# Altium integrated library Maxim Amplifiers and Comparators.IntLib: 420 symbols (part 14 of 16)
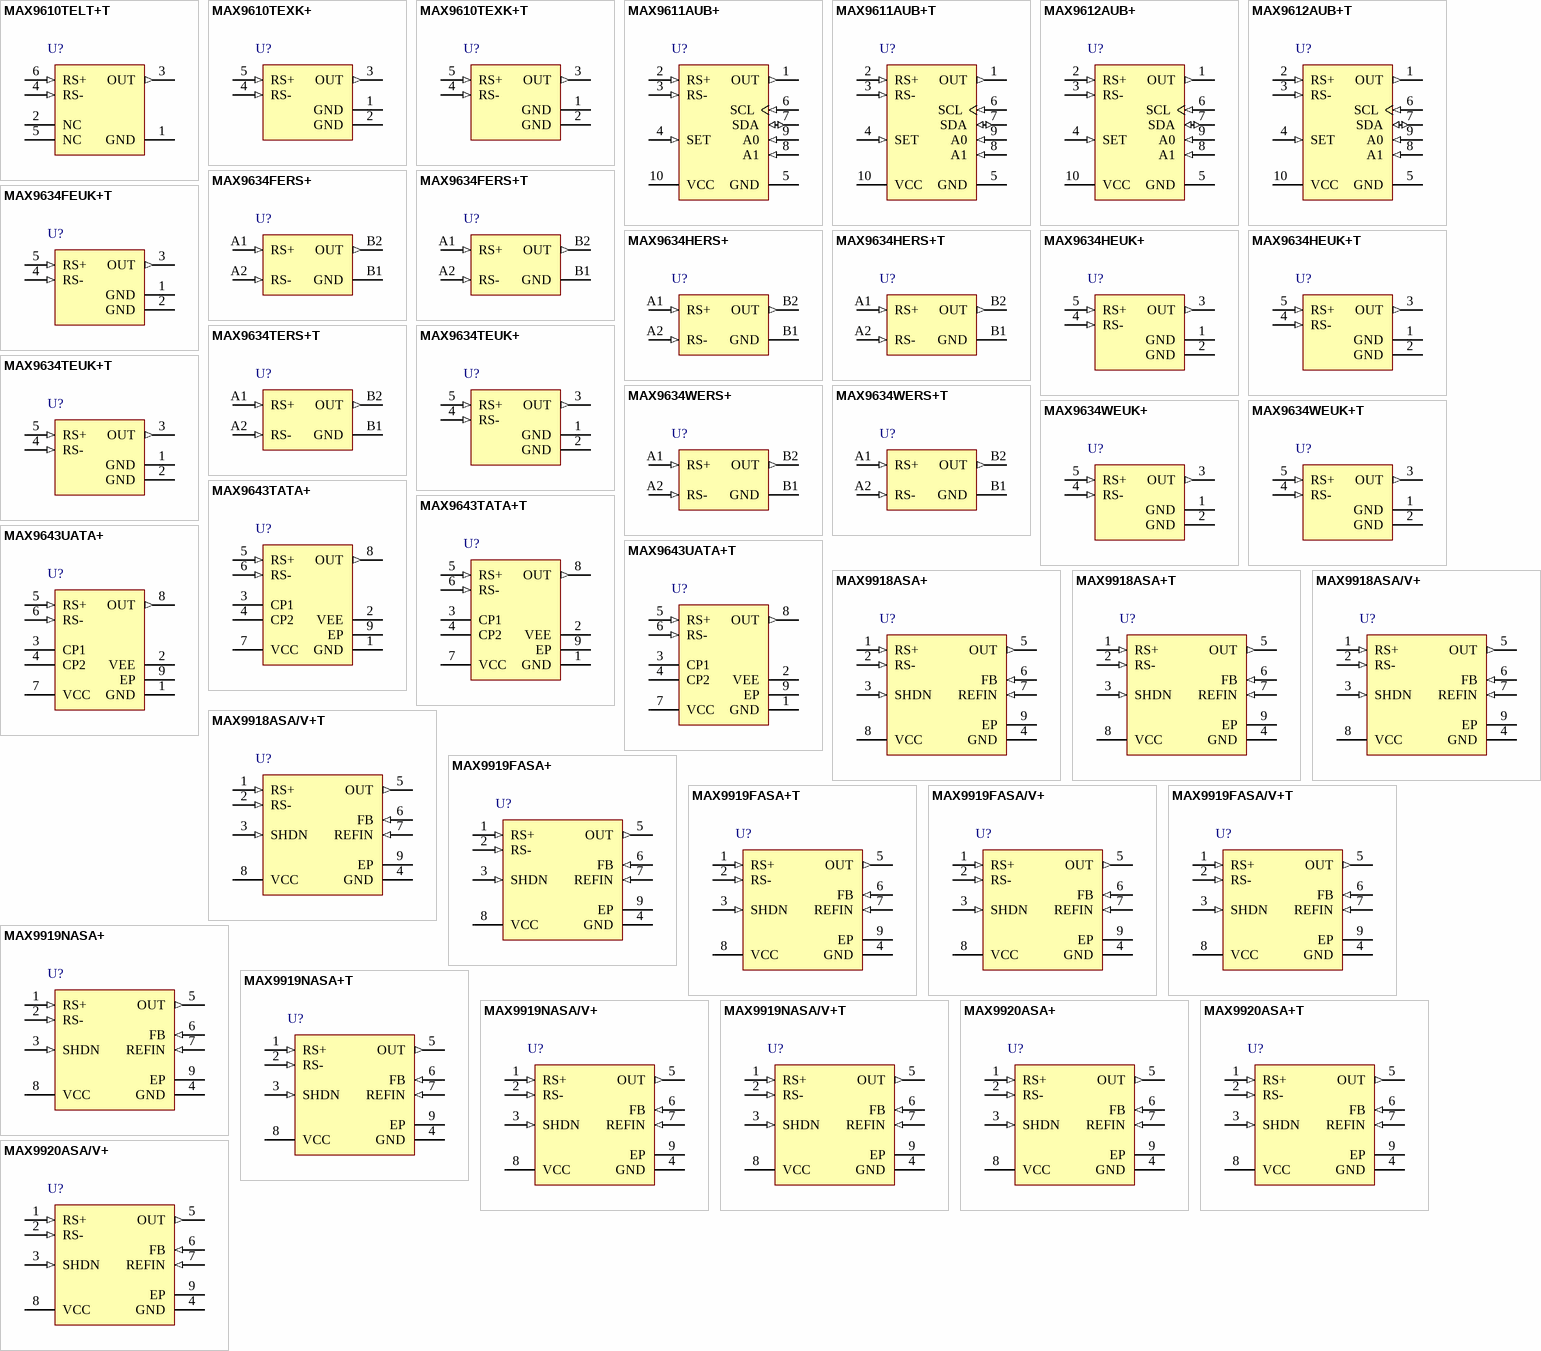
[diagram p23: symbols MAX9610TELT+T to MAX9920ASA/V+]

## MAX9918ASA/V+
designator U?
-20 to 75 V Input Range, Precision Uni- / Bidirectional, Current-Sense Amplifier, Adjustable Gain, -40 to 125 degC, 8-Pin SOIC (S8E+14), Pb-Free; PartNumber: MAX9918ASA/V+; Bi-Dir. Curr. Sense: Yes; Gain: Adj.; Industry Qualified: Automotive - AECQ100, Automotive - General; DatasheetVersion: Rev. 4; PackageVersion: Rev. E, 01/2009; PackageReference: S8E+14; PackageDescription: 8-Pin Small-Outline IC, Narrow, Body 3.9 x 4.89 mm, Exposed Pad 2.945 x 2.26 mm, Pitch 1.27 mm; Supplier 1: Mouser; Supplier Part Number 1: N/A; Mounting Technology: Surface Mount; Code_JEDEC: MS-012; ComponentLink1Description: Manufacturer URL; ComponentLink1URL: http://www.maximintegrated.com/; ComponentLink2Description: Datasheet; ComponentLink2URL: http://datasheets.maximintegrated.com/en/ds/MAX9918-MAX9920.pdf; ComponentLink3Description: Package Specification; ComponentLink3URL: http://pdfserv.maximintegrated.com/package_dwgs/21-0111.PDF
footprint MAXM-S8E+14_N (SOIC, 8-Leads, Body 4.89x3.9mm, Pitch 1.27mm, Thermal Pad 2.945x2.26mm, IPC Medium Density)
footprint MAXM-S8E+14_L (SOIC, 8-Leads, Body 4.89x3.9mm, Pitch 1.27mm, Thermal Pad 2.945x2.26mm, IPC High Density)
footprint MAXM-S8E+14_M (SOIC, 8-Leads, Body 4.89x3.9mm, Pitch 1.27mm, Thermal Pad 2.945x2.26mm, IPC Low Density)
pins: 1 RS+ (in) "Positive Current-Sensing Input. Power side connects to external sense resistor.", 2 RS- (in) "Negative Current-Sensing Input. Load side connects to external sense resistor.", 3 SHDN (in) "Active-High Shutdown Input. Connect to GND for normal operation.", 4 GND (power) "Ground", 5 OUT (out) "Current-Sense Output. VOUT is proportional to VSENSE.", 6 FB (in) "Feedback Input. Connect FB to a resistive-divider network to set the gain for the MAX9918 and MAX9920. See the Adjustable Gain (MAX9918/MAX9920) section for more information. Leave FB unconnected for the MAX9919 for proper (See Datasheet)", 7 REFIN (in) "Reference Input. Set REFIN to VCC/2 for bidirectional operation. Set REFIN to GND for unidirectional operation.", 8 VCC (power) "5V Supply Voltage Input. Bypass VCC to GND with 0.1uF capacitor.", 9 EP (power) "Exposed Pad. Connect to a large-area contiguous ground plane for improved power dissipation. Do not use as the only ground connection for the part."

## MAX9918ASA/V+T
designator U?
-20 to 75 V Input Range, Precision Uni- / Bidirectional, Current-Sense Amplifier, Adjustable Gain, -40 to 125 degC, 8-Pin SOIC (S8E+14), Pb-Free, Tape and Reel; PartNumber: MAX9918ASA/V+T; Bi-Dir. Curr. Sense: Yes; Gain: Adj.; Industry Qualified: Automotive - AECQ100, Automotive - General; DatasheetVersion: Rev. 4; PackageVersion: Rev. E, 01/2009; PackageReference: S8E+14; PackageDescription: 8-Pin Small-Outline IC, Narrow, Body 3.9 x 4.89 mm, Exposed Pad 2.945 x 2.26 mm, Pitch 1.27 mm; Supplier 1: Mouser; Supplier Part Number 1: N/A; Mounting Technology: Surface Mount; Code_JEDEC: MS-012; ComponentLink1Description: Manufacturer URL; ComponentLink1URL: http://www.maximintegrated.com/; ComponentLink2Description: Datasheet; ComponentLink2URL: http://datasheets.maximintegrated.com/en/ds/MAX9918-MAX9920.pdf; ComponentLink3Description: Package Specification; ComponentLink3URL: http://pdfserv.maximintegrated.com/package_dwgs/21-0111.PDF
footprint MAXM-S8E+14_N (SOIC, 8-Leads, Body 4.89x3.9mm, Pitch 1.27mm, Thermal Pad 2.945x2.26mm, IPC Medium Density)
footprint MAXM-S8E+14_L (SOIC, 8-Leads, Body 4.89x3.9mm, Pitch 1.27mm, Thermal Pad 2.945x2.26mm, IPC High Density)
footprint MAXM-S8E+14_M (SOIC, 8-Leads, Body 4.89x3.9mm, Pitch 1.27mm, Thermal Pad 2.945x2.26mm, IPC Low Density)
pins: 1 RS+ (in) "Positive Current-Sensing Input. Power side connects to external sense resistor.", 2 RS- (in) "Negative Current-Sensing Input. Load side connects to external sense resistor.", 3 SHDN (in) "Active-High Shutdown Input. Connect to GND for normal operation.", 4 GND (power) "Ground", 5 OUT (out) "Current-Sense Output. VOUT is proportional to VSENSE.", 6 FB (in) "Feedback Input. Connect FB to a resistive-divider network to set the gain for the MAX9918 and MAX9920. See the Adjustable Gain (MAX9918/MAX9920) section for more information. Leave FB unconnected for the MAX9919 for proper (See Datasheet)", 7 REFIN (in) "Reference Input. Set REFIN to VCC/2 for bidirectional operation. Set REFIN to GND for unidirectional operation.", 8 VCC (power) "5V Supply Voltage Input. Bypass VCC to GND with 0.1uF capacitor.", 9 EP (power) "Exposed Pad. Connect to a large-area contiguous ground plane for improved power dissipation. Do not use as the only ground connection for the part."

## MAX9919FASA+
designator U?
-20 to 75 V Input Range, Precision Uni- / Bidirectional, Current-Sense Amplifier, 45 V / V Gain, -40 to 125 degC, 8-Pin SOIC (S8E+14), Pb-Free; PartNumber: MAX9919FASA+; Bi-Dir. Curr. Sense: Yes; Gain: 45 V/V, 90 V/V; Industry Qualified: Automotive - AECQ100, Automotive - General; DatasheetVersion: Rev. 4; PackageVersion: Rev. E, 01/2009; PackageReference: S8E+14; PackageDescription: 8-Pin Small-Outline IC, Narrow, Body 3.9 x 4.89 mm, Exposed Pad 2.945 x 2.26 mm, Pitch 1.27 mm; Supplier 1: Digi-Key; Supplier Part Number 1: MAX9919FASA+-ND; Supplier 2: Mouser; Supplier Part Number 2: 700-MAX9919FASA+; Mounting Technology: Surface Mount; Code_JEDEC: MS-012; ComponentLink1Description: Manufacturer URL; ComponentLink1URL: http://www.maximintegrated.com/; ComponentLink2Description: Datasheet; ComponentLink2URL: http://datasheets.maximintegrated.com/en/ds/MAX9918-MAX9920.pdf; ComponentLink3Description: Package Specification; ComponentLink3URL: http://pdfserv.maximintegrated.com/package_dwgs/21-0111.PDF
footprint MAXM-S8E+14_N (SOIC, 8-Leads, Body 4.89x3.9mm, Pitch 1.27mm, Thermal Pad 2.945x2.26mm, IPC Medium Density)
footprint MAXM-S8E+14_L (SOIC, 8-Leads, Body 4.89x3.9mm, Pitch 1.27mm, Thermal Pad 2.945x2.26mm, IPC High Density)
footprint MAXM-S8E+14_M (SOIC, 8-Leads, Body 4.89x3.9mm, Pitch 1.27mm, Thermal Pad 2.945x2.26mm, IPC Low Density)
pins: 1 RS+ (in) "Positive Current-Sensing Input. Power side connects to external sense resistor.", 2 RS- (in) "Negative Current-Sensing Input. Load side connects to external sense resistor.", 3 SHDN (in) "Active-High Shutdown Input. Connect to GND for normal operation.", 4 GND (power) "Ground", 5 OUT (out) "Current-Sense Output. VOUT is proportional to VSENSE.", 6 FB (in) "Feedback Input. Connect FB to a resistive-divider network to set the gain for the MAX9918 and MAX9920. See the Adjustable Gain (MAX9918/MAX9920) section for more information. Leave FB unconnected for the MAX9919 for proper (See Datasheet)", 7 REFIN (in) "Reference Input. Set REFIN to VCC/2 for bidirectional operation. Set REFIN to GND for unidirectional operation.", 8 VCC (power) "5V Supply Voltage Input. Bypass VCC to GND with 0.1uF capacitor.", 9 EP (power) "Exposed Pad. Connect to a large-area contiguous ground plane for improved power dissipation. Do not use as the only ground connection for the part."

## MAX9919FASA+T
designator U?
-20 to 75 V Input Range, Precision Uni- / Bidirectional, Current-Sense Amplifier, 45 V / V Gain, -40 to 125 degC, 8-Pin SOIC (S8E+14), Pb-Free, Tape and Reel; PartNumber: MAX9919FASA+T; Bi-Dir. Curr. Sense: Yes; Gain: 45 V/V, 90 V/V; Industry Qualified: Automotive - AECQ100, Automotive - General; DatasheetVersion: Rev. 4; PackageVersion: Rev. E, 01/2009; PackageReference: S8E+14; PackageDescription: 8-Pin Small-Outline IC, Narrow, Body 3.9 x 4.89 mm, Exposed Pad 2.945 x 2.26 mm, Pitch 1.27 mm; Supplier 1: Digi-Key; Supplier Part Number 1: MAX9919FASA+T-ND; Supplier 2: Mouser; Supplier Part Number 2: 700-MAX9919FASA+T; Mounting Technology: Surface Mount; Code_JEDEC: MS-012; ComponentLink1Description: Manufacturer URL; ComponentLink1URL: http://www.maximintegrated.com/; ComponentLink2Description: Datasheet; ComponentLink2URL: http://datasheets.maximintegrated.com/en/ds/MAX9918-MAX9920.pdf; ComponentLink3Description: Package Specification; ComponentLink3URL: http://pdfserv.maximintegrated.com/package_dwgs/21-0111.PDF
footprint MAXM-S8E+14_N (SOIC, 8-Leads, Body 4.89x3.9mm, Pitch 1.27mm, Thermal Pad 2.945x2.26mm, IPC Medium Density)
footprint MAXM-S8E+14_L (SOIC, 8-Leads, Body 4.89x3.9mm, Pitch 1.27mm, Thermal Pad 2.945x2.26mm, IPC High Density)
footprint MAXM-S8E+14_M (SOIC, 8-Leads, Body 4.89x3.9mm, Pitch 1.27mm, Thermal Pad 2.945x2.26mm, IPC Low Density)
pins: 1 RS+ (in) "Positive Current-Sensing Input. Power side connects to external sense resistor.", 2 RS- (in) "Negative Current-Sensing Input. Load side connects to external sense resistor.", 3 SHDN (in) "Active-High Shutdown Input. Connect to GND for normal operation.", 4 GND (power) "Ground", 5 OUT (out) "Current-Sense Output. VOUT is proportional to VSENSE.", 6 FB (in) "Feedback Input. Connect FB to a resistive-divider network to set the gain for the MAX9918 and MAX9920. See the Adjustable Gain (MAX9918/MAX9920) section for more information. Leave FB unconnected for the MAX9919 for proper (See Datasheet)", 7 REFIN (in) "Reference Input. Set REFIN to VCC/2 for bidirectional operation. Set REFIN to GND for unidirectional operation.", 8 VCC (power) "5V Supply Voltage Input. Bypass VCC to GND with 0.1uF capacitor.", 9 EP (power) "Exposed Pad. Connect to a large-area contiguous ground plane for improved power dissipation. Do not use as the only ground connection for the part."

## MAX9919FASA/V+
designator U?
-20 to 75 V Input Range, Precision Uni- / Bidirectional, Current-Sense Amplifier, 45 V / V Gain, -40 to 125 degC, 8-Pin SOIC (S8E+14), Pb-Free; PartNumber: MAX9919FASA/V+; Bi-Dir. Curr. Sense: Yes; Gain: 45 V/V, 90 V/V; Industry Qualified: Automotive - AECQ100, Automotive - General; DatasheetVersion: Rev. 4; PackageVersion: Rev. E, 01/2009; PackageReference: S8E+14; PackageDescription: 8-Pin Small-Outline IC, Narrow, Body 3.9 x 4.89 mm, Exposed Pad 2.945 x 2.26 mm, Pitch 1.27 mm; Supplier 1: Mouser; Supplier Part Number 1: N/A; Mounting Technology: Surface Mount; Code_JEDEC: MS-012; ComponentLink1Description: Manufacturer URL; ComponentLink1URL: http://www.maximintegrated.com/; ComponentLink2Description: Datasheet; ComponentLink2URL: http://datasheets.maximintegrated.com/en/ds/MAX9918-MAX9920.pdf; ComponentLink3Description: Package Specification; ComponentLink3URL: http://pdfserv.maximintegrated.com/package_dwgs/21-0111.PDF
footprint MAXM-S8E+14_N (SOIC, 8-Leads, Body 4.89x3.9mm, Pitch 1.27mm, Thermal Pad 2.945x2.26mm, IPC Medium Density)
footprint MAXM-S8E+14_L (SOIC, 8-Leads, Body 4.89x3.9mm, Pitch 1.27mm, Thermal Pad 2.945x2.26mm, IPC High Density)
footprint MAXM-S8E+14_M (SOIC, 8-Leads, Body 4.89x3.9mm, Pitch 1.27mm, Thermal Pad 2.945x2.26mm, IPC Low Density)
pins: 1 RS+ (in) "Positive Current-Sensing Input. Power side connects to external sense resistor.", 2 RS- (in) "Negative Current-Sensing Input. Load side connects to external sense resistor.", 3 SHDN (in) "Active-High Shutdown Input. Connect to GND for normal operation.", 4 GND (power) "Ground", 5 OUT (out) "Current-Sense Output. VOUT is proportional to VSENSE.", 6 FB (in) "Feedback Input. Connect FB to a resistive-divider network to set the gain for the MAX9918 and MAX9920. See the Adjustable Gain (MAX9918/MAX9920) section for more information. Leave FB unconnected for the MAX9919 for proper (See Datasheet)", 7 REFIN (in) "Reference Input. Set REFIN to VCC/2 for bidirectional operation. Set REFIN to GND for unidirectional operation.", 8 VCC (power) "5V Supply Voltage Input. Bypass VCC to GND with 0.1uF capacitor.", 9 EP (power) "Exposed Pad. Connect to a large-area contiguous ground plane for improved power dissipation. Do not use as the only ground connection for the part."

## MAX9919FASA/V+T
designator U?
-20 to 75 V Input Range, Precision Uni- / Bidirectional, Current-Sense Amplifier, 45 V / V Gain, -40 to 125 degC, 8-Pin SOIC (S8E+14), Pb-Free, Tape and Reel; PartNumber: MAX9919FASA/V+T; Bi-Dir. Curr. Sense: Yes; Gain: 45 V/V, 90 V/V; Industry Qualified: Automotive - AECQ100, Automotive - General; DatasheetVersion: Rev. 4; PackageVersion: Rev. E, 01/2009; PackageReference: S8E+14; PackageDescription: 8-Pin Small-Outline IC, Narrow, Body 3.9 x 4.89 mm, Exposed Pad 2.945 x 2.26 mm, Pitch 1.27 mm; Supplier 1: Mouser; Supplier Part Number 1: N/A; Mounting Technology: Surface Mount; Code_JEDEC: MS-012; ComponentLink1Description: Manufacturer URL; ComponentLink1URL: http://www.maximintegrated.com/; ComponentLink2Description: Datasheet; ComponentLink2URL: http://datasheets.maximintegrated.com/en/ds/MAX9918-MAX9920.pdf; ComponentLink3Description: Package Specification; ComponentLink3URL: http://pdfserv.maximintegrated.com/package_dwgs/21-0111.PDF
footprint MAXM-S8E+14_N (SOIC, 8-Leads, Body 4.89x3.9mm, Pitch 1.27mm, Thermal Pad 2.945x2.26mm, IPC Medium Density)
footprint MAXM-S8E+14_L (SOIC, 8-Leads, Body 4.89x3.9mm, Pitch 1.27mm, Thermal Pad 2.945x2.26mm, IPC High Density)
footprint MAXM-S8E+14_M (SOIC, 8-Leads, Body 4.89x3.9mm, Pitch 1.27mm, Thermal Pad 2.945x2.26mm, IPC Low Density)
pins: 1 RS+ (in) "Positive Current-Sensing Input. Power side connects to external sense resistor.", 2 RS- (in) "Negative Current-Sensing Input. Load side connects to external sense resistor.", 3 SHDN (in) "Active-High Shutdown Input. Connect to GND for normal operation.", 4 GND (power) "Ground", 5 OUT (out) "Current-Sense Output. VOUT is proportional to VSENSE.", 6 FB (in) "Feedback Input. Connect FB to a resistive-divider network to set the gain for the MAX9918 and MAX9920. See the Adjustable Gain (MAX9918/MAX9920) section for more information. Leave FB unconnected for the MAX9919 for proper (See Datasheet)", 7 REFIN (in) "Reference Input. Set REFIN to VCC/2 for bidirectional operation. Set REFIN to GND for unidirectional operation.", 8 VCC (power) "5V Supply Voltage Input. Bypass VCC to GND with 0.1uF capacitor.", 9 EP (power) "Exposed Pad. Connect to a large-area contiguous ground plane for improved power dissipation. Do not use as the only ground connection for the part."

## MAX9919NASA+
designator U?
-20 to 75 V Input Range, Precision Uni- / Bidirectional, Current-Sense Amplifier, 90 V / V Gain, -40 to 125 degC, 8-Pin SOIC (S8E+14), Pb-Free; PartNumber: MAX9919NASA+; Bi-Dir. Curr. Sense: Yes; Gain: 45 V/V, 90 V/V; Industry Qualified: Automotive - AECQ100, Automotive - General; DatasheetVersion: Rev. 4; PackageVersion: Rev. E, 01/2009; PackageReference: S8E+14; PackageDescription: 8-Pin Small-Outline IC, Narrow, Body 3.9 x 4.89 mm, Exposed Pad 2.945 x 2.26 mm, Pitch 1.27 mm; Supplier 1: Digi-Key; Supplier Part Number 1: MAX9919NASA+-ND; Supplier 2: Mouser; Supplier Part Number 2: 700-MAX9919NASA+; Mounting Technology: Surface Mount; Code_JEDEC: MS-012; ComponentLink1Description: Manufacturer URL; ComponentLink1URL: http://www.maximintegrated.com/; ComponentLink2Description: Datasheet; ComponentLink2URL: http://datasheets.maximintegrated.com/en/ds/MAX9918-MAX9920.pdf; ComponentLink3Description: Package Specification; ComponentLink3URL: http://pdfserv.maximintegrated.com/package_dwgs/21-0111.PDF
footprint MAXM-S8E+14_N (SOIC, 8-Leads, Body 4.89x3.9mm, Pitch 1.27mm, Thermal Pad 2.945x2.26mm, IPC Medium Density)
footprint MAXM-S8E+14_L (SOIC, 8-Leads, Body 4.89x3.9mm, Pitch 1.27mm, Thermal Pad 2.945x2.26mm, IPC High Density)
footprint MAXM-S8E+14_M (SOIC, 8-Leads, Body 4.89x3.9mm, Pitch 1.27mm, Thermal Pad 2.945x2.26mm, IPC Low Density)
pins: 1 RS+ (in) "Positive Current-Sensing Input. Power side connects to external sense resistor.", 2 RS- (in) "Negative Current-Sensing Input. Load side connects to external sense resistor.", 3 SHDN (in) "Active-High Shutdown Input. Connect to GND for normal operation.", 4 GND (power) "Ground", 5 OUT (out) "Current-Sense Output. VOUT is proportional to VSENSE.", 6 FB (in) "Feedback Input. Connect FB to a resistive-divider network to set the gain for the MAX9918 and MAX9920. See the Adjustable Gain (MAX9918/MAX9920) section for more information. Leave FB unconnected for the MAX9919 for proper (See Datasheet)", 7 REFIN (in) "Reference Input. Set REFIN to VCC/2 for bidirectional operation. Set REFIN to GND for unidirectional operation.", 8 VCC (power) "5V Supply Voltage Input. Bypass VCC to GND with 0.1uF capacitor.", 9 EP (power) "Exposed Pad. Connect to a large-area contiguous ground plane for improved power dissipation. Do not use as the only ground connection for the part."

## MAX9919NASA+T
designator U?
-20 to 75 V Input Range, Precision Uni- / Bidirectional, Current-Sense Amplifier, 90 V / V Gain, -40 to 125 degC, 8-Pin SOIC (S8E+14), Pb-Free, Tape and Reel; PartNumber: MAX9919NASA+T; Bi-Dir. Curr. Sense: Yes; Gain: 45 V/V, 90 V/V; Industry Qualified: Automotive - AECQ100, Automotive - General; DatasheetVersion: Rev. 4; PackageVersion: Rev. E, 01/2009; PackageReference: S8E+14; PackageDescription: 8-Pin Small-Outline IC, Narrow, Body 3.9 x 4.89 mm, Exposed Pad 2.945 x 2.26 mm, Pitch 1.27 mm; Supplier 1: Digi-Key; Supplier Part Number 1: MAX9919NASA+T-ND; Supplier 2: Mouser; Supplier Part Number 2: 700-MAX9919NASA+T; Mounting Technology: Surface Mount; Code_JEDEC: MS-012; ComponentLink1Description: Manufacturer URL; ComponentLink1URL: http://www.maximintegrated.com/; ComponentLink2Description: Datasheet; ComponentLink2URL: http://datasheets.maximintegrated.com/en/ds/MAX9918-MAX9920.pdf; ComponentLink3Description: Package Specification; ComponentLink3URL: http://pdfserv.maximintegrated.com/package_dwgs/21-0111.PDF
footprint MAXM-S8E+14_N (SOIC, 8-Leads, Body 4.89x3.9mm, Pitch 1.27mm, Thermal Pad 2.945x2.26mm, IPC Medium Density)
footprint MAXM-S8E+14_L (SOIC, 8-Leads, Body 4.89x3.9mm, Pitch 1.27mm, Thermal Pad 2.945x2.26mm, IPC High Density)
footprint MAXM-S8E+14_M (SOIC, 8-Leads, Body 4.89x3.9mm, Pitch 1.27mm, Thermal Pad 2.945x2.26mm, IPC Low Density)
pins: 1 RS+ (in) "Positive Current-Sensing Input. Power side connects to external sense resistor.", 2 RS- (in) "Negative Current-Sensing Input. Load side connects to external sense resistor.", 3 SHDN (in) "Active-High Shutdown Input. Connect to GND for normal operation.", 4 GND (power) "Ground", 5 OUT (out) "Current-Sense Output. VOUT is proportional to VSENSE.", 6 FB (in) "Feedback Input. Connect FB to a resistive-divider network to set the gain for the MAX9918 and MAX9920. See the Adjustable Gain (MAX9918/MAX9920) section for more information. Leave FB unconnected for the MAX9919 for proper (See Datasheet)", 7 REFIN (in) "Reference Input. Set REFIN to VCC/2 for bidirectional operation. Set REFIN to GND for unidirectional operation.", 8 VCC (power) "5V Supply Voltage Input. Bypass VCC to GND with 0.1uF capacitor.", 9 EP (power) "Exposed Pad. Connect to a large-area contiguous ground plane for improved power dissipation. Do not use as the only ground connection for the part."

## MAX9919NASA/V+
designator U?
-20 to 75 V Input Range, Precision Uni- / Bidirectional, Current-Sense Amplifier, 90 V / V Gain, -40 to 125 degC, 8-Pin SOIC (S8E+14), Pb-Free; PartNumber: MAX9919NASA/V+; Bi-Dir. Curr. Sense: Yes; Gain: 45 V/V, 90 V/V; Industry Qualified: Automotive - AECQ100, Automotive - General; DatasheetVersion: Rev. 4; PackageVersion: Rev. E, 01/2009; PackageReference: S8E+14; PackageDescription: 8-Pin Small-Outline IC, Narrow, Body 3.9 x 4.89 mm, Exposed Pad 2.945 x 2.26 mm, Pitch 1.27 mm; Supplier 1: Mouser; Supplier Part Number 1: N/A; Mounting Technology: Surface Mount; Code_JEDEC: MS-012; ComponentLink1Description: Manufacturer URL; ComponentLink1URL: http://www.maximintegrated.com/; ComponentLink2Description: Datasheet; ComponentLink2URL: http://datasheets.maximintegrated.com/en/ds/MAX9918-MAX9920.pdf; ComponentLink3Description: Package Specification; ComponentLink3URL: http://pdfserv.maximintegrated.com/package_dwgs/21-0111.PDF
footprint MAXM-S8E+14_N (SOIC, 8-Leads, Body 4.89x3.9mm, Pitch 1.27mm, Thermal Pad 2.945x2.26mm, IPC Medium Density)
footprint MAXM-S8E+14_L (SOIC, 8-Leads, Body 4.89x3.9mm, Pitch 1.27mm, Thermal Pad 2.945x2.26mm, IPC High Density)
footprint MAXM-S8E+14_M (SOIC, 8-Leads, Body 4.89x3.9mm, Pitch 1.27mm, Thermal Pad 2.945x2.26mm, IPC Low Density)
pins: 1 RS+ (in) "Positive Current-Sensing Input. Power side connects to external sense resistor.", 2 RS- (in) "Negative Current-Sensing Input. Load side connects to external sense resistor.", 3 SHDN (in) "Active-High Shutdown Input. Connect to GND for normal operation.", 4 GND (power) "Ground", 5 OUT (out) "Current-Sense Output. VOUT is proportional to VSENSE.", 6 FB (in) "Feedback Input. Connect FB to a resistive-divider network to set the gain for the MAX9918 and MAX9920. See the Adjustable Gain (MAX9918/MAX9920) section for more information. Leave FB unconnected for the MAX9919 for proper (See Datasheet)", 7 REFIN (in) "Reference Input. Set REFIN to VCC/2 for bidirectional operation. Set REFIN to GND for unidirectional operation.", 8 VCC (power) "5V Supply Voltage Input. Bypass VCC to GND with 0.1uF capacitor.", 9 EP (power) "Exposed Pad. Connect to a large-area contiguous ground plane for improved power dissipation. Do not use as the only ground connection for the part."

## MAX9919NASA/V+T
designator U?
-20 to 75 V Input Range, Precision Uni- / Bidirectional, Current-Sense Amplifier, 90 V / V Gain, -40 to 125 degC, 8-Pin SOIC (S8E+14), Pb-Free, Tape and Reel; PartNumber: MAX9919NASA/V+T; Bi-Dir. Curr. Sense: Yes; Gain: 45 V/V, 90 V/V; Industry Qualified: Automotive - AECQ100, Automotive - General; DatasheetVersion: Rev. 4; PackageVersion: Rev. E, 01/2009; PackageReference: S8E+14; PackageDescription: 8-Pin Small-Outline IC, Narrow, Body 3.9 x 4.89 mm, Exposed Pad 2.945 x 2.26 mm, Pitch 1.27 mm; Supplier 1: Mouser; Supplier Part Number 1: N/A; Mounting Technology: Surface Mount; Code_JEDEC: MS-012; ComponentLink1Description: Manufacturer URL; ComponentLink1URL: http://www.maximintegrated.com/; ComponentLink2Description: Datasheet; ComponentLink2URL: http://datasheets.maximintegrated.com/en/ds/MAX9918-MAX9920.pdf; ComponentLink3Description: Package Specification; ComponentLink3URL: http://pdfserv.maximintegrated.com/package_dwgs/21-0111.PDF
footprint MAXM-S8E+14_N (SOIC, 8-Leads, Body 4.89x3.9mm, Pitch 1.27mm, Thermal Pad 2.945x2.26mm, IPC Medium Density)
footprint MAXM-S8E+14_L (SOIC, 8-Leads, Body 4.89x3.9mm, Pitch 1.27mm, Thermal Pad 2.945x2.26mm, IPC High Density)
footprint MAXM-S8E+14_M (SOIC, 8-Leads, Body 4.89x3.9mm, Pitch 1.27mm, Thermal Pad 2.945x2.26mm, IPC Low Density)
pins: 1 RS+ (in) "Positive Current-Sensing Input. Power side connects to external sense resistor.", 2 RS- (in) "Negative Current-Sensing Input. Load side connects to external sense resistor.", 3 SHDN (in) "Active-High Shutdown Input. Connect to GND for normal operation.", 4 GND (power) "Ground", 5 OUT (out) "Current-Sense Output. VOUT is proportional to VSENSE.", 6 FB (in) "Feedback Input. Connect FB to a resistive-divider network to set the gain for the MAX9918 and MAX9920. See the Adjustable Gain (MAX9918/MAX9920) section for more information. Leave FB unconnected for the MAX9919 for proper (See Datasheet)", 7 REFIN (in) "Reference Input. Set REFIN to VCC/2 for bidirectional operation. Set REFIN to GND for unidirectional operation.", 8 VCC (power) "5V Supply Voltage Input. Bypass VCC to GND with 0.1uF capacitor.", 9 EP (power) "Exposed Pad. Connect to a large-area contiguous ground plane for improved power dissipation. Do not use as the only ground connection for the part."

## MAX9920ASA+
designator U?
-20 to 75 V Input Range, Precision Uni- / Bidirectional, Current-Sense Amplifier, Adjustable Gain, -40 to 125 degC, 8-Pin SOIC (S8E+14), Pb-Free; PartNumber: MAX9920ASA+; Bi-Dir. Curr. Sense: Yes; Gain: Adj.; Industry Qualified: Automotive - AECQ100, Automotive - General; DatasheetVersion: Rev. 4; PackageVersion: Rev. E, 01/2009; PackageReference: S8E+14; PackageDescription: 8-Pin Small-Outline IC, Narrow, Body 3.9 x 4.89 mm, Exposed Pad 2.945 x 2.26 mm, Pitch 1.27 mm; Supplier 1: Digi-Key; Supplier Part Number 1: MAX9920ASA+-ND; Supplier 2: Mouser; Supplier Part Number 2: 700-MAX9920ASA+; Mounting Technology: Surface Mount; Code_JEDEC: MS-012; ComponentLink1Description: Manufacturer URL; ComponentLink1URL: http://www.maximintegrated.com/; ComponentLink2Description: Datasheet; ComponentLink2URL: http://datasheets.maximintegrated.com/en/ds/MAX9918-MAX9920.pdf; ComponentLink3Description: Package Specification; ComponentLink3URL: http://pdfserv.maximintegrated.com/package_dwgs/21-0111.PDF
footprint MAXM-S8E+14_N (SOIC, 8-Leads, Body 4.89x3.9mm, Pitch 1.27mm, Thermal Pad 2.945x2.26mm, IPC Medium Density)
footprint MAXM-S8E+14_L (SOIC, 8-Leads, Body 4.89x3.9mm, Pitch 1.27mm, Thermal Pad 2.945x2.26mm, IPC High Density)
footprint MAXM-S8E+14_M (SOIC, 8-Leads, Body 4.89x3.9mm, Pitch 1.27mm, Thermal Pad 2.945x2.26mm, IPC Low Density)
pins: 1 RS+ (in) "Positive Current-Sensing Input. Power side connects to external sense resistor.", 2 RS- (in) "Negative Current-Sensing Input. Load side connects to external sense resistor.", 3 SHDN (in) "Active-High Shutdown Input. Connect to GND for normal operation.", 4 GND (power) "Ground", 5 OUT (out) "Current-Sense Output. VOUT is proportional to VSENSE.", 6 FB (in) "Feedback Input. Connect FB to a resistive-divider network to set the gain for the MAX9918 and MAX9920. See the Adjustable Gain (MAX9918/MAX9920) section for more information. Leave FB unconnected for the MAX9919 for proper (See Datasheet)", 7 REFIN (in) "Reference Input. Set REFIN to VCC/2 for bidirectional operation. Set REFIN to GND for unidirectional operation.", 8 VCC (power) "5V Supply Voltage Input. Bypass VCC to GND with 0.1uF capacitor.", 9 EP (power) "Exposed Pad. Connect to a large-area contiguous ground plane for improved power dissipation. Do not use as the only ground connection for the part."

## MAX9920ASA+T
designator U?
-20 to 75 V Input Range, Precision Uni- / Bidirectional, Current-Sense Amplifier, Adjustable Gain, -40 to 125 degC, 8-Pin SOIC (S8E+14), Pb-Free, Tape and Reel; PartNumber: MAX9920ASA+T; Bi-Dir. Curr. Sense: Yes; Gain: Adj.; Industry Qualified: Automotive - AECQ100, Automotive - General; DatasheetVersion: Rev. 4; PackageVersion: Rev. E, 01/2009; PackageReference: S8E+14; PackageDescription: 8-Pin Small-Outline IC, Narrow, Body 3.9 x 4.89 mm, Exposed Pad 2.945 x 2.26 mm, Pitch 1.27 mm; Supplier 1: Digi-Key; Supplier Part Number 1: MAX9920ASA+T-ND; Supplier 2: Mouser; Supplier Part Number 2: 700-MAX9920ASA+T; Mounting Technology: Surface Mount; Code_JEDEC: MS-012; ComponentLink1Description: Manufacturer URL; ComponentLink1URL: http://www.maximintegrated.com/; ComponentLink2Description: Datasheet; ComponentLink2URL: http://datasheets.maximintegrated.com/en/ds/MAX9918-MAX9920.pdf; ComponentLink3Description: Package Specification; ComponentLink3URL: http://pdfserv.maximintegrated.com/package_dwgs/21-0111.PDF
footprint MAXM-S8E+14_N (SOIC, 8-Leads, Body 4.89x3.9mm, Pitch 1.27mm, Thermal Pad 2.945x2.26mm, IPC Medium Density)
footprint MAXM-S8E+14_L (SOIC, 8-Leads, Body 4.89x3.9mm, Pitch 1.27mm, Thermal Pad 2.945x2.26mm, IPC High Density)
footprint MAXM-S8E+14_M (SOIC, 8-Leads, Body 4.89x3.9mm, Pitch 1.27mm, Thermal Pad 2.945x2.26mm, IPC Low Density)
pins: 1 RS+ (in) "Positive Current-Sensing Input. Power side connects to external sense resistor.", 2 RS- (in) "Negative Current-Sensing Input. Load side connects to external sense resistor.", 3 SHDN (in) "Active-High Shutdown Input. Connect to GND for normal operation.", 4 GND (power) "Ground", 5 OUT (out) "Current-Sense Output. VOUT is proportional to VSENSE.", 6 FB (in) "Feedback Input. Connect FB to a resistive-divider network to set the gain for the MAX9918 and MAX9920. See the Adjustable Gain (MAX9918/MAX9920) section for more information. Leave FB unconnected for the MAX9919 for proper (See Datasheet)", 7 REFIN (in) "Reference Input. Set REFIN to VCC/2 for bidirectional operation. Set REFIN to GND for unidirectional operation.", 8 VCC (power) "5V Supply Voltage Input. Bypass VCC to GND with 0.1uF capacitor.", 9 EP (power) "Exposed Pad. Connect to a large-area contiguous ground plane for improved power dissipation. Do not use as the only ground connection for the part."

## MAX9920ASA/V+
designator U?
-20 to 75 V Input Range, Precision Uni- / Bidirectional, Current-Sense Amplifier, Adjustable Gain, -40 to 125 degC, 8-Pin SOIC (S8E+14), Pb-Free; PartNumber: MAX9920ASA/V+; Bi-Dir. Curr. Sense: Yes; Gain: Adj.; Industry Qualified: Automotive - AECQ100, Automotive - General; DatasheetVersion: Rev. 4; PackageVersion: Rev. E, 01/2009; PackageReference: S8E+14; PackageDescription: 8-Pin Small-Outline IC, Narrow, Body 3.9 x 4.89 mm, Exposed Pad 2.945 x 2.26 mm, Pitch 1.27 mm; Supplier 1: Digi-Key; Supplier Part Number 1: MAX9920ASA/V+-ND; Supplier 2: Mouser; Supplier Part Number 2: 700-MAX9920ASA/V+; Mounting Technology: Surface Mount; Code_JEDEC: MS-012; ComponentLink1Description: Manufacturer URL; ComponentLink1URL: http://www.maximintegrated.com/; ComponentLink2Description: Datasheet; ComponentLink2URL: http://datasheets.maximintegrated.com/en/ds/MAX9918-MAX9920.pdf; ComponentLink3Description: Package Specification; ComponentLink3URL: http://pdfserv.maximintegrated.com/package_dwgs/21-0111.PDF
footprint MAXM-S8E+14_N (SOIC, 8-Leads, Body 4.89x3.9mm, Pitch 1.27mm, Thermal Pad 2.945x2.26mm, IPC Medium Density)
footprint MAXM-S8E+14_L (SOIC, 8-Leads, Body 4.89x3.9mm, Pitch 1.27mm, Thermal Pad 2.945x2.26mm, IPC High Density)
footprint MAXM-S8E+14_M (SOIC, 8-Leads, Body 4.89x3.9mm, Pitch 1.27mm, Thermal Pad 2.945x2.26mm, IPC Low Density)
pins: 1 RS+ (in) "Positive Current-Sensing Input. Power side connects to external sense resistor.", 2 RS- (in) "Negative Current-Sensing Input. Load side connects to external sense resistor.", 3 SHDN (in) "Active-High Shutdown Input. Connect to GND for normal operation.", 4 GND (power) "Ground", 5 OUT (out) "Current-Sense Output. VOUT is proportional to VSENSE.", 6 FB (in) "Feedback Input. Connect FB to a resistive-divider network to set the gain for the MAX9918 and MAX9920. See the Adjustable Gain (MAX9918/MAX9920) section for more information. Leave FB unconnected for the MAX9919 for proper (See Datasheet)", 7 REFIN (in) "Reference Input. Set REFIN to VCC/2 for bidirectional operation. Set REFIN to GND for unidirectional operation.", 8 VCC (power) "5V Supply Voltage Input. Bypass VCC to GND with 0.1uF capacitor.", 9 EP (power) "Exposed Pad. Connect to a large-area contiguous ground plane for improved power dissipation. Do not use as the only ground connection for the part."

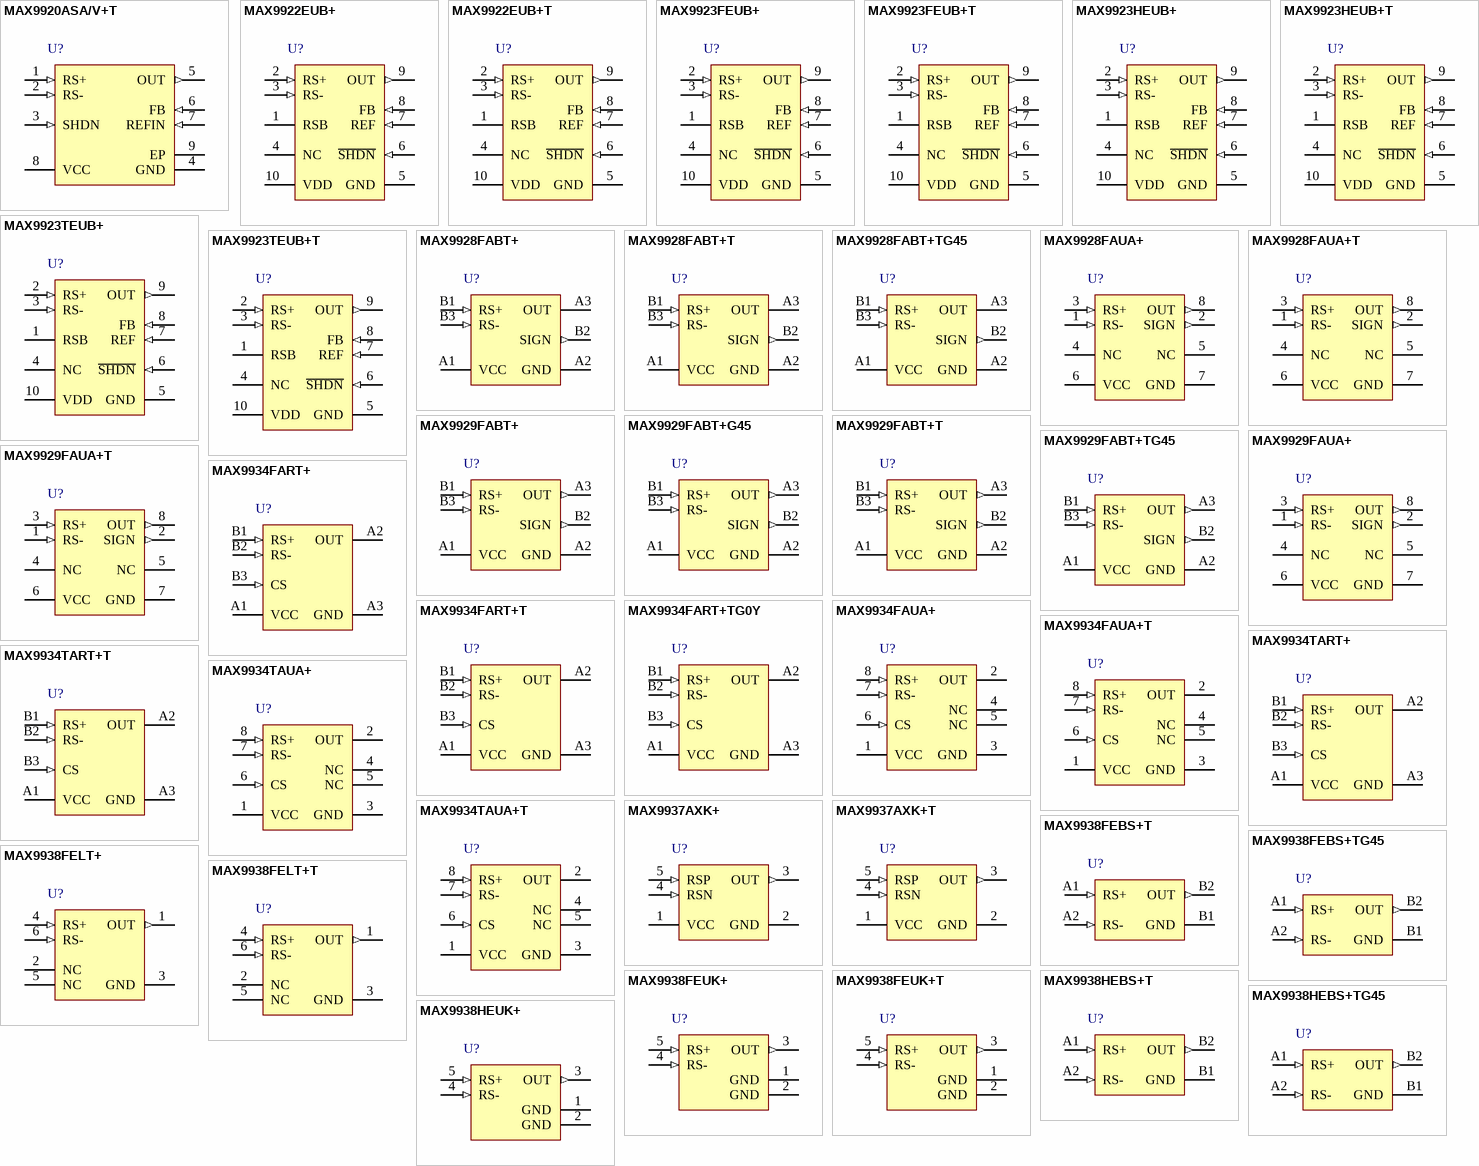
[diagram p9: symbols MAX9920ASA/V+T to MAX9938HEUK+]

## MAX9920ASA/V+T
designator U?
-20 to 75 V Input Range, Precision Uni- / Bidirectional, Current-Sense Amplifier, Adjustable Gain, -40 to 125 degC, 8-Pin SOIC (S8E+14), Pb-Free, Tape and Reel; PartNumber: MAX9920ASA/V+T; Bi-Dir. Curr. Sense: Yes; Gain: Adj.; Industry Qualified: Automotive - AECQ100, Automotive - General; DatasheetVersion: Rev. 4; PackageVersion: Rev. E, 01/2009; PackageReference: S8E+14; PackageDescription: 8-Pin Small-Outline IC, Narrow, Body 3.9 x 4.89 mm, Exposed Pad 2.945 x 2.26 mm, Pitch 1.27 mm; Supplier 1: Digi-Key; Supplier Part Number 1: MAX9920ASA/V+T-ND; Supplier 2: Mouser; Supplier Part Number 2: 700-MAX9920ASA/V+T; Mounting Technology: Surface Mount; Code_JEDEC: MS-012; ComponentLink1Description: Manufacturer URL; ComponentLink1URL: http://www.maximintegrated.com/; ComponentLink2Description: Datasheet; ComponentLink2URL: http://datasheets.maximintegrated.com/en/ds/MAX9918-MAX9920.pdf; ComponentLink3Description: Package Specification; ComponentLink3URL: http://pdfserv.maximintegrated.com/package_dwgs/21-0111.PDF
footprint MAXM-S8E+14_N (SOIC, 8-Leads, Body 4.89x3.9mm, Pitch 1.27mm, Thermal Pad 2.945x2.26mm, IPC Medium Density)
footprint MAXM-S8E+14_L (SOIC, 8-Leads, Body 4.89x3.9mm, Pitch 1.27mm, Thermal Pad 2.945x2.26mm, IPC High Density)
footprint MAXM-S8E+14_M (SOIC, 8-Leads, Body 4.89x3.9mm, Pitch 1.27mm, Thermal Pad 2.945x2.26mm, IPC Low Density)
pins: 1 RS+ (in) "Positive Current-Sensing Input. Power side connects to external sense resistor.", 2 RS- (in) "Negative Current-Sensing Input. Load side connects to external sense resistor.", 3 SHDN (in) "Active-High Shutdown Input. Connect to GND for normal operation.", 4 GND (power) "Ground", 5 OUT (out) "Current-Sense Output. VOUT is proportional to VSENSE.", 6 FB (in) "Feedback Input. Connect FB to a resistive-divider network to set the gain for the MAX9918 and MAX9920. See the Adjustable Gain (MAX9918/MAX9920) section for more information. Leave FB unconnected for the MAX9919 for proper (See Datasheet)", 7 REFIN (in) "Reference Input. Set REFIN to VCC/2 for bidirectional operation. Set REFIN to GND for unidirectional operation.", 8 VCC (power) "5V Supply Voltage Input. Bypass VCC to GND with 0.1uF capacitor.", 9 EP (power) "Exposed Pad. Connect to a large-area contiguous ground plane for improved power dissipation. Do not use as the only ground connection for the part."

## MAX9922EUB+
designator U?
Ultra-precision, High-side Current-Sense Amplifier, Adjustable Gain, -40 to 85 degC, 10-Pin SOP (U10+2), Pb-Free; PartNumber: MAX9922EUB+; Bi-Dir. Curr. Sense: Yes; Gain: Adj.; DatasheetVersion: Rev. 1; PackageVersion: Rev. L, 07/2008; PackageReference: U10+2; PackageDescription: 10-Pin Micro-MAX, Thin Shrink Small-Outline (U10+2), Body 3 x 3 mm, Pitch 0.5 mm; Supplier 1: Digi-Key; Supplier Part Number 1: MAX9922EUB+-ND; Supplier 2: Mouser; Supplier Part Number 2: 700-MAX9922EUB; Mounting Technology: Surface Mount; Code_JEDEC: MO-187; ComponentLink1Description: Manufacturer URL; ComponentLink1URL: http://www.maximintegrated.com/; ComponentLink2Description: Datasheet; ComponentLink2URL: http://datasheets.maximintegrated.com/en/ds/MAX9922-MAX9923.pdf; ComponentLink3Description: Package Specification; ComponentLink3URL: http://pdfserv.maximintegrated.com/package_dwgs/21-0061.PDF
footprint MAXM-U10+2_N (SOP, 10-Leads, Body 3x3mm, Pitch 0.5mm, IPC Medium Density)
footprint MAXM-U10+2_L (SOP, 10-Leads, Body 3x3mm, Pitch 0.5mm, IPC High Density)
footprint MAXM-U10+2_M (SOP, 10-Leads, Body 3x3mm, Pitch 0.5mm, IPC Low Density)
pins: 1 RSB (power) "Current-Sense Amplifier Input Stage Supply. Connect to either RS+ or RS-.", 2 RS+ (in) "Current-Sense Amplifier Positive Input", 3 RS- (in) "Current-Sense Amplifier Negative Input", 4 NC "No Connection. Not internally connected.", 5 GND (power) "Ground", 6 ~{SHDN} (in) "Shutdown Logic Input. Connect to GND to reduce quiescent current to 1uA. Connect to VDD for normal operation.", 7 REF (in) "Reference Voltage Input. Connect to an external voltage to provide a bidirectional current-sense output. Connect to GND for unidirectional operation.", 8 FB (in) "Gain-Set Feedback Input. Connect an optional noise reduction capacitor between OUT and FB.Fixed gain. See the Functional Diagrams.", 9 OUT (out) "Voltage Output. VOUT is proportional to VSENSE.", 10 VDD (power) "Power-Supply Voltage Input. Bypass to GND with a 0.1µF capacitor."

## MAX9922EUB+T
designator U?
Ultra-precision, High-side Current-Sense Amplifier, Adjustable Gain, -40 to 85 degC, 10-Pin SOP (U10+2), Pb-Free, Tape and Reel; PartNumber: MAX9922EUB+T; Bi-Dir. Curr. Sense: Yes; Gain: Adj.; DatasheetVersion: Rev. 1; PackageVersion: Rev. L, 07/2008; PackageReference: U10+2; PackageDescription: 10-Pin Micro-MAX, Thin Shrink Small-Outline (U10+2), Body 3 x 3 mm, Pitch 0.5 mm; Supplier 1: Digi-Key; Supplier Part Number 1: MAX9922EUB+TTR-ND; Supplier 2: Digi-Key; Supplier Part Number 2: MAX9922EUB+TCT-ND; Supplier 3: Digi-Key; Supplier Part Number 3: MAX9922EUB+TDKR-ND; Supplier 4: Mouser; Supplier Part Number 4: 700-MAX9922EUB+T; Mounting Technology: Surface Mount; Code_JEDEC: MO-187; ComponentLink1Description: Manufacturer URL; ComponentLink1URL: http://www.maximintegrated.com/; ComponentLink2Description: Datasheet; ComponentLink2URL: http://datasheets.maximintegrated.com/en/ds/MAX9922-MAX9923.pdf; ComponentLink3Description: Package Specification; ComponentLink3URL: http://pdfserv.maximintegrated.com/package_dwgs/21-0061.PDF
footprint MAXM-U10+2_N (SOP, 10-Leads, Body 3x3mm, Pitch 0.5mm, IPC Medium Density)
footprint MAXM-U10+2_L (SOP, 10-Leads, Body 3x3mm, Pitch 0.5mm, IPC High Density)
footprint MAXM-U10+2_M (SOP, 10-Leads, Body 3x3mm, Pitch 0.5mm, IPC Low Density)
pins: 1 RSB (power) "Current-Sense Amplifier Input Stage Supply. Connect to either RS+ or RS-.", 2 RS+ (in) "Current-Sense Amplifier Positive Input", 3 RS- (in) "Current-Sense Amplifier Negative Input", 4 NC "No Connection. Not internally connected.", 5 GND (power) "Ground", 6 ~{SHDN} (in) "Shutdown Logic Input. Connect to GND to reduce quiescent current to 1uA. Connect to VDD for normal operation.", 7 REF (in) "Reference Voltage Input. Connect to an external voltage to provide a bidirectional current-sense output. Connect to GND for unidirectional operation.", 8 FB (in) "Gain-Set Feedback Input. Connect an optional noise reduction capacitor between OUT and FB.Fixed gain. See the Functional Diagrams.", 9 OUT (out) "Voltage Output. VOUT is proportional to VSENSE.", 10 VDD (power) "Power-Supply Voltage Input. Bypass to GND with a 0.1µF capacitor."

## MAX9923FEUB+
designator U?
Ultra-Precision, High-Side Current-Sense Amplifier with Fixed Gain, 250 V / V Gain, -40 to 85 degC, 10-Pin SOP (U10+2), Pb-Free; PartNumber: MAX9923FEUB+; Bi-Dir. Curr. Sense: Yes; Gain: 25 V/V, 100 V/V ,250 V/V; DatasheetVersion: Rev. 1; PackageVersion: Rev. L, 07/2008; PackageReference: U10+2; PackageDescription: 10-Pin Micro-MAX, Thin Shrink Small-Outline (U10+2), Body 3 x 3 mm, Pitch 0.5 mm; Supplier 1: Digi-Key; Supplier Part Number 1: MAX9923FEUB+-ND; Supplier 2: Mouser; Supplier Part Number 2: 700-MAX9923FEUB; Mounting Technology: Surface Mount; Code_JEDEC: MO-187; ComponentLink1Description: Manufacturer URL; ComponentLink1URL: http://www.maximintegrated.com/; ComponentLink2Description: Datasheet; ComponentLink2URL: http://datasheets.maximintegrated.com/en/ds/MAX9922-MAX9923.pdf; ComponentLink3Description: Package Specification; ComponentLink3URL: http://pdfserv.maximintegrated.com/package_dwgs/21-0061.PDF
footprint MAXM-U10+2_N (SOP, 10-Leads, Body 3x3mm, Pitch 0.5mm, IPC Medium Density)
footprint MAXM-U10+2_L (SOP, 10-Leads, Body 3x3mm, Pitch 0.5mm, IPC High Density)
footprint MAXM-U10+2_M (SOP, 10-Leads, Body 3x3mm, Pitch 0.5mm, IPC Low Density)
pins: 1 RSB (power) "Current-Sense Amplifier Input Stage Supply. Connect to either RS+ or RS-.", 2 RS+ (in) "Current-Sense Amplifier Positive Input", 3 RS- (in) "Current-Sense Amplifier Negative Input", 4 NC "No Connection. Not internally connected.", 5 GND (power) "Ground", 6 ~{SHDN} (in) "Shutdown Logic Input. Connect to GND to reduce quiescent current to 1uA. Connect to VDD for normal operation.", 7 REF (in) "Reference Voltage Input. Connect to an external voltage to provide a bidirectional current-sense output. Connect to GND for unidirectional operation.", 8 FB (in) "Gain-Set Feedback Input. Connect an optional noise reduction capacitor between OUT and FB.Fixed gain. See the Functional Diagrams.", 9 OUT (out) "Voltage Output. VOUT is proportional to VSENSE.", 10 VDD (power) "Power-Supply Voltage Input. Bypass to GND with a 0.1µF capacitor."

## MAX9923FEUB+T
designator U?
Ultra-Precision, High-Side Current-Sense Amplifier with Fixed Gain, 250 V / V Gain, -40 to 85 degC, 10-Pin SOP (U10+2), Pb-Free, Tape and Reel; PartNumber: MAX9923FEUB+T; Bi-Dir. Curr. Sense: Yes; Gain: 25 V/V, 100 V/V ,250 V/V; DatasheetVersion: Rev. 1; PackageVersion: Rev. L, 07/2008; PackageReference: U10+2; PackageDescription: 10-Pin Micro-MAX, Thin Shrink Small-Outline (U10+2), Body 3 x 3 mm, Pitch 0.5 mm; Supplier 1: Digi-Key; Supplier Part Number 1: MAX9923FEUB+T-ND; Supplier 2: Mouser; Supplier Part Number 2: 700-MAX9923FEUB+T; Mounting Technology: Surface Mount; Code_JEDEC: MO-187; ComponentLink1Description: Manufacturer URL; ComponentLink1URL: http://www.maximintegrated.com/; ComponentLink2Description: Datasheet; ComponentLink2URL: http://datasheets.maximintegrated.com/en/ds/MAX9922-MAX9923.pdf; ComponentLink3Description: Package Specification; ComponentLink3URL: http://pdfserv.maximintegrated.com/package_dwgs/21-0061.PDF
footprint MAXM-U10+2_N (SOP, 10-Leads, Body 3x3mm, Pitch 0.5mm, IPC Medium Density)
footprint MAXM-U10+2_L (SOP, 10-Leads, Body 3x3mm, Pitch 0.5mm, IPC High Density)
footprint MAXM-U10+2_M (SOP, 10-Leads, Body 3x3mm, Pitch 0.5mm, IPC Low Density)
pins: 1 RSB (power) "Current-Sense Amplifier Input Stage Supply. Connect to either RS+ or RS-.", 2 RS+ (in) "Current-Sense Amplifier Positive Input", 3 RS- (in) "Current-Sense Amplifier Negative Input", 4 NC "No Connection. Not internally connected.", 5 GND (power) "Ground", 6 ~{SHDN} (in) "Shutdown Logic Input. Connect to GND to reduce quiescent current to 1uA. Connect to VDD for normal operation.", 7 REF (in) "Reference Voltage Input. Connect to an external voltage to provide a bidirectional current-sense output. Connect to GND for unidirectional operation.", 8 FB (in) "Gain-Set Feedback Input. Connect an optional noise reduction capacitor between OUT and FB.Fixed gain. See the Functional Diagrams.", 9 OUT (out) "Voltage Output. VOUT is proportional to VSENSE.", 10 VDD (power) "Power-Supply Voltage Input. Bypass to GND with a 0.1µF capacitor."

## MAX9923HEUB+
designator U?
Ultra-Precision, High-Side Current-Sense Amplifier with Fixed Gain, 100 V / V Gain, -40 to 85 degC, 10-Pin SOP (U10+2), Pb-Free; PartNumber: MAX9923HEUB+; Bi-Dir. Curr. Sense: Yes; Gain: 25 V/V, 100 V/V ,250 V/V; DatasheetVersion: Rev. 1; PackageVersion: Rev. L, 07/2008; PackageReference: U10+2; PackageDescription: 10-Pin Micro-MAX, Thin Shrink Small-Outline (U10+2), Body 3 x 3 mm, Pitch 0.5 mm; Supplier 1: Digi-Key; Supplier Part Number 1: MAX9923HEUB+-ND; Supplier 2: Mouser; Supplier Part Number 2: 700-MAX9923HEUB; Mounting Technology: Surface Mount; Code_JEDEC: MO-187; ComponentLink1Description: Manufacturer URL; ComponentLink1URL: http://www.maximintegrated.com/; ComponentLink2Description: Datasheet; ComponentLink2URL: http://datasheets.maximintegrated.com/en/ds/MAX9922-MAX9923.pdf; ComponentLink3Description: Package Specification; ComponentLink3URL: http://pdfserv.maximintegrated.com/package_dwgs/21-0061.PDF
footprint MAXM-U10+2_N (SOP, 10-Leads, Body 3x3mm, Pitch 0.5mm, IPC Medium Density)
footprint MAXM-U10+2_L (SOP, 10-Leads, Body 3x3mm, Pitch 0.5mm, IPC High Density)
footprint MAXM-U10+2_M (SOP, 10-Leads, Body 3x3mm, Pitch 0.5mm, IPC Low Density)
pins: 1 RSB (power) "Current-Sense Amplifier Input Stage Supply. Connect to either RS+ or RS-.", 2 RS+ (in) "Current-Sense Amplifier Positive Input", 3 RS- (in) "Current-Sense Amplifier Negative Input", 4 NC "No Connection. Not internally connected.", 5 GND (power) "Ground", 6 ~{SHDN} (in) "Shutdown Logic Input. Connect to GND to reduce quiescent current to 1uA. Connect to VDD for normal operation.", 7 REF (in) "Reference Voltage Input. Connect to an external voltage to provide a bidirectional current-sense output. Connect to GND for unidirectional operation.", 8 FB (in) "Gain-Set Feedback Input. Connect an optional noise reduction capacitor between OUT and FB.Fixed gain. See the Functional Diagrams.", 9 OUT (out) "Voltage Output. VOUT is proportional to VSENSE.", 10 VDD (power) "Power-Supply Voltage Input. Bypass to GND with a 0.1µF capacitor."

## MAX9923HEUB+T
designator U?
Ultra-Precision, High-Side Current-Sense Amplifier with Fixed Gain, 100 V / V Gain, -40 to 85 degC, 10-Pin SOP (U10+2), Pb-Free, Tape and Reel; PartNumber: MAX9923HEUB+T; Bi-Dir. Curr. Sense: Yes; Gain: 25 V/V, 100 V/V ,250 V/V; DatasheetVersion: Rev. 1; PackageVersion: Rev. L, 07/2008; PackageReference: U10+2; PackageDescription: 10-Pin Micro-MAX, Thin Shrink Small-Outline (U10+2), Body 3 x 3 mm, Pitch 0.5 mm; Supplier 1: Digi-Key; Supplier Part Number 1: MAX9923HEUB+T-ND; Supplier 2: Mouser; Supplier Part Number 2: 700-MAX9923HEUB+T; Mounting Technology: Surface Mount; Code_JEDEC: MO-187; ComponentLink1Description: Manufacturer URL; ComponentLink1URL: http://www.maximintegrated.com/; ComponentLink2Description: Datasheet; ComponentLink2URL: http://datasheets.maximintegrated.com/en/ds/MAX9922-MAX9923.pdf; ComponentLink3Description: Package Specification; ComponentLink3URL: http://pdfserv.maximintegrated.com/package_dwgs/21-0061.PDF
footprint MAXM-U10+2_N (SOP, 10-Leads, Body 3x3mm, Pitch 0.5mm, IPC Medium Density)
footprint MAXM-U10+2_L (SOP, 10-Leads, Body 3x3mm, Pitch 0.5mm, IPC High Density)
footprint MAXM-U10+2_M (SOP, 10-Leads, Body 3x3mm, Pitch 0.5mm, IPC Low Density)
pins: 1 RSB (power) "Current-Sense Amplifier Input Stage Supply. Connect to either RS+ or RS-.", 2 RS+ (in) "Current-Sense Amplifier Positive Input", 3 RS- (in) "Current-Sense Amplifier Negative Input", 4 NC "No Connection. Not internally connected.", 5 GND (power) "Ground", 6 ~{SHDN} (in) "Shutdown Logic Input. Connect to GND to reduce quiescent current to 1uA. Connect to VDD for normal operation.", 7 REF (in) "Reference Voltage Input. Connect to an external voltage to provide a bidirectional current-sense output. Connect to GND for unidirectional operation.", 8 FB (in) "Gain-Set Feedback Input. Connect an optional noise reduction capacitor between OUT and FB.Fixed gain. See the Functional Diagrams.", 9 OUT (out) "Voltage Output. VOUT is proportional to VSENSE.", 10 VDD (power) "Power-Supply Voltage Input. Bypass to GND with a 0.1µF capacitor."

## MAX9923TEUB+
designator U?
Ultra-Precision, High-Side Current-Sense Amplifier with Fixed Gain, 25 V / V Gain, -40 to 85 degC, 10-Pin SOP (U10+2), Pb-Free; PartNumber: MAX9923TEUB+; Bi-Dir. Curr. Sense: Yes; Gain: 25 V/V, 100 V/V ,250 V/V; DatasheetVersion: Rev. 1; PackageVersion: Rev. L, 07/2008; PackageReference: U10+2; PackageDescription: 10-Pin Micro-MAX, Thin Shrink Small-Outline (U10+2), Body 3 x 3 mm, Pitch 0.5 mm; Supplier 1: Digi-Key; Supplier Part Number 1: MAX9923TEUB+-ND; Supplier 2: Mouser; Supplier Part Number 2: 700-MAX9923TEUB; Mounting Technology: Surface Mount; Code_JEDEC: MO-187; ComponentLink1Description: Manufacturer URL; ComponentLink1URL: http://www.maximintegrated.com/; ComponentLink2Description: Datasheet; ComponentLink2URL: http://datasheets.maximintegrated.com/en/ds/MAX9922-MAX9923.pdf; ComponentLink3Description: Package Specification; ComponentLink3URL: http://pdfserv.maximintegrated.com/package_dwgs/21-0061.PDF
footprint MAXM-U10+2_N (SOP, 10-Leads, Body 3x3mm, Pitch 0.5mm, IPC Medium Density)
footprint MAXM-U10+2_L (SOP, 10-Leads, Body 3x3mm, Pitch 0.5mm, IPC High Density)
footprint MAXM-U10+2_M (SOP, 10-Leads, Body 3x3mm, Pitch 0.5mm, IPC Low Density)
pins: 1 RSB (power) "Current-Sense Amplifier Input Stage Supply. Connect to either RS+ or RS-.", 2 RS+ (in) "Current-Sense Amplifier Positive Input", 3 RS- (in) "Current-Sense Amplifier Negative Input", 4 NC "No Connection. Not internally connected.", 5 GND (power) "Ground", 6 ~{SHDN} (in) "Shutdown Logic Input. Connect to GND to reduce quiescent current to 1uA. Connect to VDD for normal operation.", 7 REF (in) "Reference Voltage Input. Connect to an external voltage to provide a bidirectional current-sense output. Connect to GND for unidirectional operation.", 8 FB (in) "Gain-Set Feedback Input. Connect an optional noise reduction capacitor between OUT and FB.Fixed gain. See the Functional Diagrams.", 9 OUT (out) "Voltage Output. VOUT is proportional to VSENSE.", 10 VDD (power) "Power-Supply Voltage Input. Bypass to GND with a 0.1µF capacitor."

## MAX9923TEUB+T
designator U?
Ultra-Precision, High-Side Current-Sense Amplifier with Fixed Gain, 25 V / V Gain, -40 to 85 degC, 10-Pin SOP (U10+2), Pb-Free, Tape and Reel; PartNumber: MAX9923TEUB+T; Bi-Dir. Curr. Sense: Yes; Gain: 25 V/V, 100 V/V ,250 V/V; DatasheetVersion: Rev. 1; PackageVersion: Rev. L, 07/2008; PackageReference: U10+2; PackageDescription: 10-Pin Micro-MAX, Thin Shrink Small-Outline (U10+2), Body 3 x 3 mm, Pitch 0.5 mm; Supplier 1: Digi-Key; Supplier Part Number 1: MAX9923TEUB+T-ND; Supplier 2: Mouser; Supplier Part Number 2: 700-MAX9923TEUB+T; Mounting Technology: Surface Mount; Code_JEDEC: MO-187; ComponentLink1Description: Manufacturer URL; ComponentLink1URL: http://www.maximintegrated.com/; ComponentLink2Description: Datasheet; ComponentLink2URL: http://datasheets.maximintegrated.com/en/ds/MAX9922-MAX9923.pdf; ComponentLink3Description: Package Specification; ComponentLink3URL: http://pdfserv.maximintegrated.com/package_dwgs/21-0061.PDF
footprint MAXM-U10+2_N (SOP, 10-Leads, Body 3x3mm, Pitch 0.5mm, IPC Medium Density)
footprint MAXM-U10+2_L (SOP, 10-Leads, Body 3x3mm, Pitch 0.5mm, IPC High Density)
footprint MAXM-U10+2_M (SOP, 10-Leads, Body 3x3mm, Pitch 0.5mm, IPC Low Density)
pins: 1 RSB (power) "Current-Sense Amplifier Input Stage Supply. Connect to either RS+ or RS-.", 2 RS+ (in) "Current-Sense Amplifier Positive Input", 3 RS- (in) "Current-Sense Amplifier Negative Input", 4 NC "No Connection. Not internally connected.", 5 GND (power) "Ground", 6 ~{SHDN} (in) "Shutdown Logic Input. Connect to GND to reduce quiescent current to 1uA. Connect to VDD for normal operation.", 7 REF (in) "Reference Voltage Input. Connect to an external voltage to provide a bidirectional current-sense output. Connect to GND for unidirectional operation.", 8 FB (in) "Gain-Set Feedback Input. Connect an optional noise reduction capacitor between OUT and FB.Fixed gain. See the Functional Diagrams.", 9 OUT (out) "Voltage Output. VOUT is proportional to VSENSE.", 10 VDD (power) "Power-Supply Voltage Input. Bypass to GND with a 0.1µF capacitor."